# EAGLE library part LATTE_SHIELD (library wooddy)
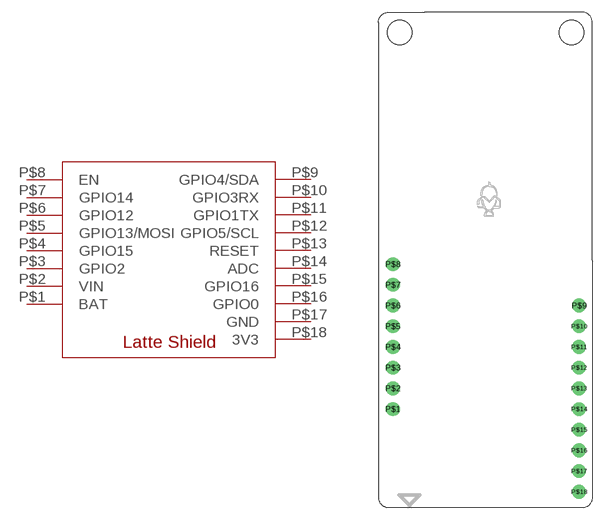
[diagram p4: symbol with the pads of LATTE_V1; footprint LATTE_V1]

Designator prefix -

## LATTE_SHIELD  [LATTE_V1]
P$1  BAT
P$2  VIN
P$3  GPIO2
P$4  GPIO15
P$5  GPIO13/MOSI
P$6  GPIO12
P$7  GPIO14
P$8  EN
P$9  GPIO4/SDA
P$10  GPIO3RX
P$11  GPIO1TX
P$12  GPIO5/SCL
P$13  RESET
P$14  ADC
P$15  GPIO16
P$16  GPIO0
P$17  GND
P$18  3V3

## Footprint LATTE_V1 (pad centres in mm)
drill 0.8 pad 1.676: P$1 1.778,11.811; P$2 1.778,14.351; P$3 1.778,16.891; P$4 1.778,19.431; P$5 1.778,21.971; P$6 1.778,24.511; P$7 1.778,27.051; P$8 1.778,29.591; P$9 24.638,24.511; P$10 24.638,21.971; P$11 24.638,19.431; P$12 24.638,16.891; P$13 24.638,14.351; P$14 24.638,11.811; P$15 24.638,9.271; P$16 24.638,6.731; P$17 24.638,4.191; P$18 24.638,1.651
hole 3 at 2.603,58.039
hole 3 at 23.686,58.039